# EAGLE library part BARRIER-1X6 (library Sparky)
Barrier block pin connector, 1 row, 6 cable entries/circuits, 0.325" pitch Modeled on On Shore Technology Inc. OSTYK42106030
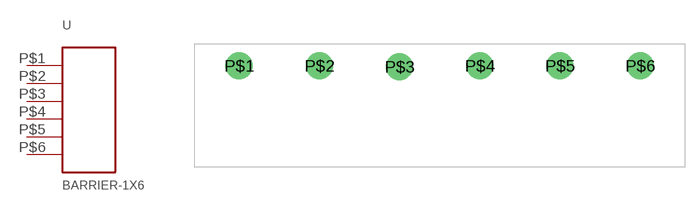
[diagram p26: symbol with the pads of BARRIER-0.325-1X6; footprint BARRIER-0.325-1X6]

Designator prefix -

## BARRIER-1X6_0.325-ONSHORE  [BARRIER-0.325-1X6]
P$1  P$1
P$2  P$2
P$3  P$3
P$4  P$4
P$5  P$5
P$6  P$6

## Footprint BARRIER-0.325-1X6 (pad centres in mm)
drill 1.85: P$1 4.6,-2.3; P$2 12.85,-2.3; P$3 21.1,-2.4; P$4 29.35,-2.3; P$5 37.6,-2.3; P$6 45.85,-2.3